# Altium footprint library tyco-card-edge.PcbLib: 4 footprints
Each footprint in its own frame and in the unit in brackets; x right, y up, seen from the top. Pads: shape width x height; smd on the part's side, far side on the other; paste and mask are expansions set on the pad; w line width, h text height; cw(c..) or ccw(c..) is an arc to the next point about the centre after c.
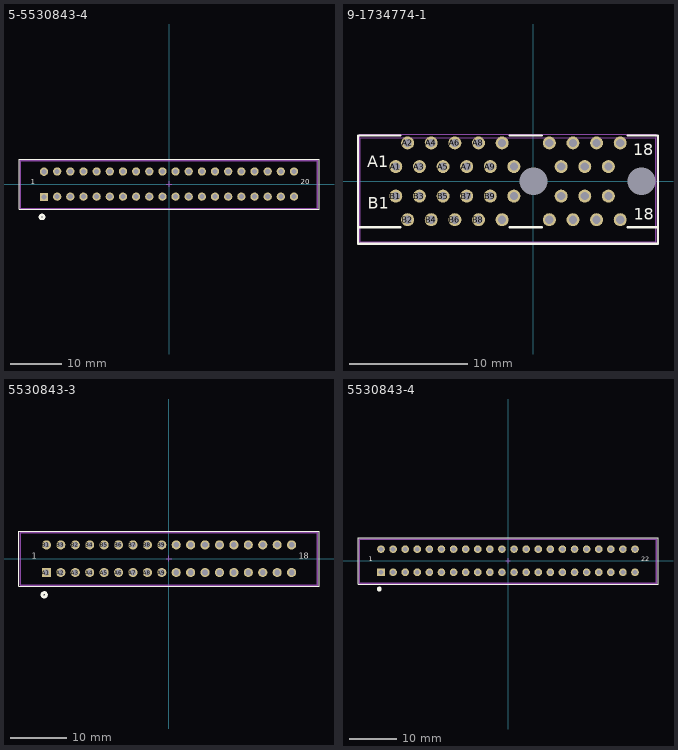
[diagram p0: the footprints below, top view; thin cyan lines are the x and y axes]

## 5-5530843-4 [mil] "40pos, 2.54mm Card Edge Connector"
height 157.48
pads (40):
  rect 63x63 / inner rect 60x60 / far side rect 63x63 hole 39.37: A1(-950,-97.76)
  round 63 / inner round 60 / far side round 63 hole 39.37: A2(-850,-95.5) A3(-750,-95.5) A4(-650,-95.5) A5(-550,-95.5) A6(-450,-95.5) A7(-350,-95.5) A8(-250,-95.5) A9(-150,-95.5) A10(-50,-95.5) A11(50,-95.5) A12(150,-95.5) A13(250,-95.5) A14(350,-95.5) A15(450,-95.5) A16(550,-95.5) A17(650,-95.5) A18(750,-95.5) A19(850,-95.5) A20(950,-95.5) B1(-950,93.66) B2(-850,95.5) B3(-750,95.5) B4(-650,95.5) B5(-550,95.5) B6(-450,95.5) B7(-350,95.5) B8(-250,95.5) B9(-150,95.5) B10(-50,95.5) B11(50,95.5) B12(150,95.5) B13(250,95.5) B14(350,95.5) B15(450,95.5) B16(550,95.5) B17(650,95.5) B18(750,95.5) B19(850,95.5) B20(950,95.5)
Top Overlay:
  circle w20: c-965,-250 r15
  lines w7.87: -1140,-193.24 -1140,189.76 1140,189.76 1140,-193.24 -1140,-193.24
  text "20" at 1000,-2.24 h39.37
  text "1" at -1050,-2.24 h39.37
Mechanical 13:
  lines w3.94: -19.68,0 19.69,0 ; 0,-19.68 0,19.69 ; -1131.5,-187.28 1131.5,-187.28 1131.5,182.8 -1131.5,182.8 -1131.5,-187.28
Mechanical 15:
  lines w3.94: -1127.56,-183.35 1127.56,-183.35 1127.56,178.86 -1127.56,178.86 -1127.56,-183.35
  text ".Designator" at -110.24,-8.86 h31.5
3D body: height 610.24, standoff -124.76, extent -1130,-185.26 1130,187.74

## 9-1734774-1 [mm] "36pos, 1.0mm, PCI EXpress, Card Edge Connector"
height 11
pads (38):
  round 0 hole 2.35 unplated: 0(0,0) 0(9.15,0)
  round 1.1 / inner round 1 / far side round 1.1 hole 0.7: A1(-11.65,1.25) A2(-10.65,3.25) A3(-9.65,1.25) A4(-8.65,3.25) A5(-7.65,1.25) A6(-6.65,3.25) A7(-5.65,1.25) A8(-4.65,3.25) A9(-3.65,1.25) A10(-2.65,3.25) A11(-1.65,1.25) A12(1.35,3.25) A13(2.35,1.25) A14(3.35,3.25) A15(4.35,1.25) A16(5.35,3.25) A17(6.35,1.25) A18(7.35,3.25) B1(-11.65,-1.25) B2(-10.65,-3.25) B3(-9.65,-1.25) B4(-8.65,-3.25) B5(-7.65,-1.25) B6(-6.65,-3.25) B7(-5.65,-1.25) B8(-4.65,-3.25) B9(-3.65,-1.25) B10(-2.65,-3.25) B11(-1.65,-1.25) B12(1.35,-3.25) B13(2.35,-1.25) B14(3.35,-3.25) B15(4.35,-1.25) B16(5.35,-3.25) B17(6.35,-1.25) B18(7.35,-3.25)
Top Overlay:
  lines w0.2: -14.85,-3.875 -11.25,-3.875 ; -11.25,3.875 -14.85,3.875 -14.85,-5.275 10.55,-5.275 10.55,3.875 8,3.875 ; -2,-3.875 0.7,-3.875 ; -2,3.875 0.7,3.875 ; 8,-3.875 10.55,-3.875
  text "18" at 8.45,2.2 h1
  text "18" at 8.5,-3.25 h1
  text "A1" at -14.05,1.2 h1
  text "B1" at -14.025,-2.325 h1
Mechanical 13:
  lines w0.1: -0.5,0.025 0.5,0.025 ; 0,-0.475 0,0.525 ; -14.65,-5.1 10.35,-5.1 10.35,3.675 -14.65,3.675 -14.65,-5.1
Mechanical 15:
  lines w0.1: -14.7,-5.15 10.4,-5.15 10.4,3.975 -14.7,3.975 -14.7,-5.15
  text ".Designator" at -2.8,-0.2 h0.8
3D body: height 11, standoff -4.4, extent -14.65,-5.1 10.35,3.7

## 5530843-3 [mil] "36pos, 2.54mm Card Edge Connector"
height 157.48
pads (36):
  rect 63x63 / inner rect 60x60 / far side rect 63x63 hole 39.37: A1(-850,-95.51)
  round 63 / inner round 60 / far side round 63 hole 39.37: A2(-750,-95.51) A3(-650,-95.51) A4(-550,-95.51) A5(-450,-95.51) A6(-350,-95.51) A7(-250,-95.51) A8(-150,-95.51) A9(-50,-95.51) A10(50,-95.51) A11(150,-95.51) A12(250,-95.51) A13(350,-95.51) A14(450,-95.51) A15(550,-95.51) A16(650,-95.51) A17(750,-95.51) A18(850,-95.51) B1(-850,95.91) B2(-650,95.91) B3(-750,95.91) B4(-550,95.91) B5(-450,95.91) B6(-350,95.91) B7(-250,95.91) B8(-150,95.91) B9(-50,95.91) B10(50,95.91) B11(150,95.91) B12(250,95.91) B13(350,95.91) B14(450,95.91) B15(550,95.91) B16(650,95.91) B17(750,95.91) B18(850,95.91)
Top Overlay:
  circle w20: c-865,-250 r15
  lines w7.87: -1040,-191 -1040,192 1040,192 1040,-191 -1040,-191
  text "18" at 900,0 h39.37
  text "1" at -950,0 h39.37
Mechanical 13:
  lines w3.94: -19.68,0.98 19.69,0.98 ; 0,-18.7 0,20.67 ; -1031.5,-185.04 1031.5,-185.04 1031.5,185.04 -1031.5,185.04 -1031.5,-185.04
Mechanical 15:
  lines w3.94: -1027.56,-181.1 1027.56,-181.1 1027.56,181.1 -1027.56,181.1 -1027.56,-181.1
  text ".Designator" at -110.24,-7.87 h31.5
3D body: height 610.24, standoff -124.76, extent -1030,-183.02 1030,189.98

## 5530843-4 [mil] "44pos, 2.54mm Card Edge Connector"
height 157.48
pads (44):
  rect 63x63 / inner rect 60x60 / far side rect 63x63 hole 39.37: A1(-1050,-95.5)
  round 63 / inner round 60 / far side round 63 hole 39.37: A2(-950,-95.5) A3(-850,-95.5) A4(-750,-95.5) A5(-650,-95.5) A6(-550,-95.5) A7(-450,-95.5) A8(-350,-95.5) A9(-250,-95.5) A10(-150,-95.5) A11(-50,-95.5) A12(50,-95.5) A13(150,-95.5) A14(250,-95.5) A15(350,-95.5) A16(450,-95.5) A17(550,-95.5) A18(650,-95.5) A19(750,-95.5) A20(850,-95.5) A21(950,-95.5) A22(1050,-95.5) B1(-1050,95.5) B2(-950,95.5) B3(-850,95.5) B4(-750,95.5) B5(-650,95.5) B6(-550,95.5) B7(-450,95.5) B8(-350,95.5) B9(-250,95.5) B10(-150,95.5) B11(-50,95.5) B12(50,95.5) B13(150,95.5) B14(250,95.5) B15(350,95.5) B16(450,95.5) B17(550,95.5) B18(650,95.5) B19(750,95.5) B20(850,95.5) B21(950,95.5) B22(1050,95.5)
Top Overlay:
  circle w19.68: c-1064,-234 r9.84
  lines w7.87: -1240,-193.24 -1240,189.76 1240,189.76 1240,-193.24 -1240,-193.24
  text "22" at 1100,-2.24 h39.37
  text "1" at -1150,-2.24 h39.37
Mechanical 13:
  lines w3.94: -19.68,0 19.69,0 ; 0,-19.68 0,19.69 ; -1231.5,-187.28 1231.5,-187.28 1231.5,182.8 -1231.5,182.8 -1231.5,-187.28
Mechanical 15:
  lines w3.94: -1227.56,-183.35 1227.56,-183.35 1227.56,178.86 -1227.56,178.86 -1227.56,-183.35
  text ".Designator" at -110.24,-8.86 h31.5
3D body: height 610.24, standoff -124.76, extent -1230,-185.26 1230,187.74